# Altium integrated library NSC Switcher.IntLib: 2027 symbols (part 48 of 54)
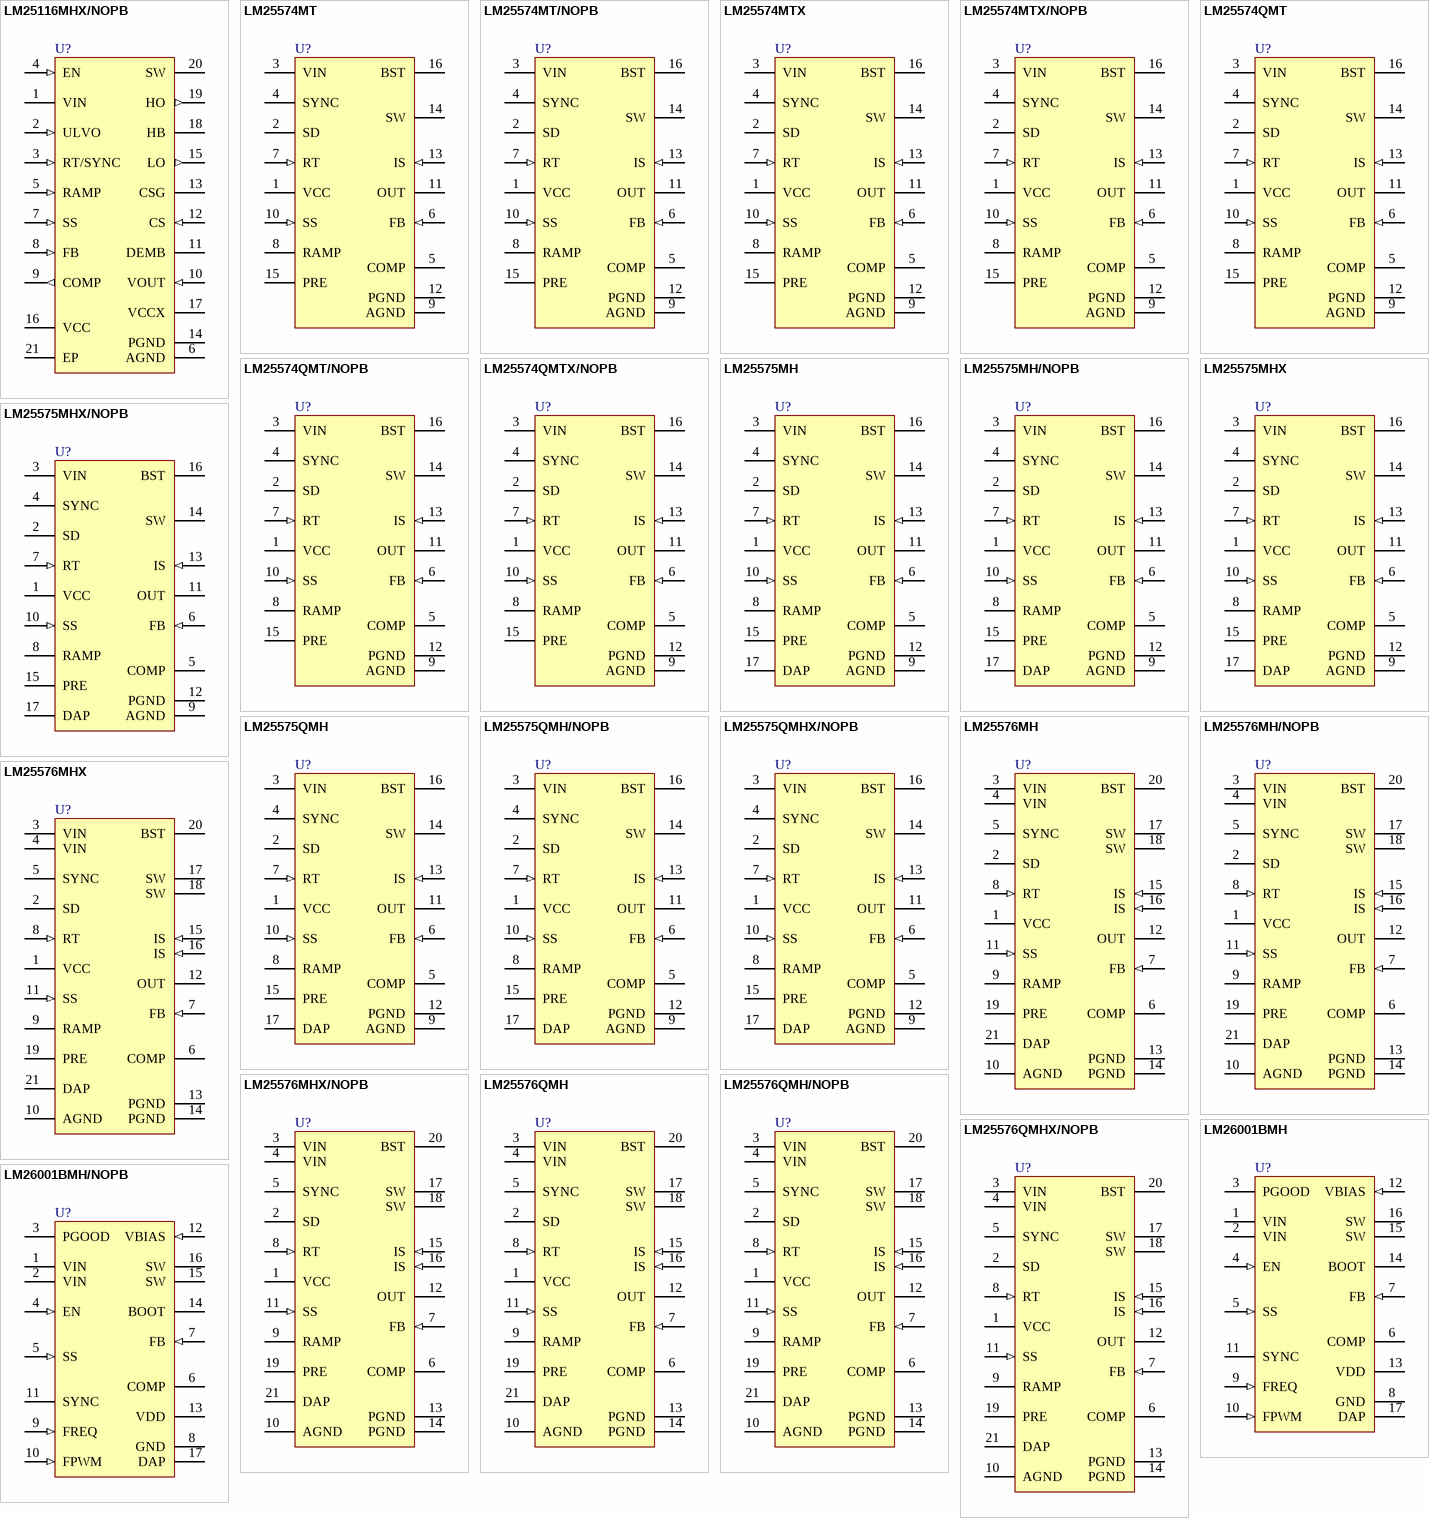
[diagram p110: symbols LM25116MHX/NOPB to LM26001BMH/NOPB]

## LM25575MHX/NOPB
designator U?
SIMPLE SWITCHER® 42V, 1.5A Step-Down Switching Regulator, 16-pin TSSOP-EP, Pb-Free; PartNumber: LM25575MHX/NOPB; Manufacturer: National Semiconductor; PackageTopMarking: NSUZXYTT*L25575*MH; PowerWise: Y; Published: 1-Mar-2010; DatasheetVersion: Mar-2009; PackageVersion: revA, Apr-2003; PackageReference: MXA16A; Publisher: Altium Limited; PackageDescription: Molded TSSOP, Jedec, Exposed Pad, 5.0 x 4.4 x 0.9mm Body,16 Lead, 0.65mm Pitch; Supplier 1: Digi-Key; Supplier Part Number 1: LM25575MHX-ND; RoHS: Y; PinCount: 16; CompType: Switcher; Code_JEDEC: MO-153-ABT; ComponentLink1Description: LM25575 Datasheet; ComponentLink1URL: http://www.national.com/ds/LM/LM25575.pdf; ComponentLink2Description: LM25575 Web Page; ComponentLink2URL: http://www.national.com/pf/LM/LM25575.html; ComponentLink3Description: MXA16A Package Page; ComponentLink3URL: http://www.national.com/packaging/folders/mxa16a.html
footprint MXA16A_N (TSOP, 16-Leads, Body 5x4.4mm, Pitch 0.65mm, Exposed Pad, IPC Medium Density)
footprint MXA16A_L (TSOP, 16-Leads, Body 5x4.4mm, Pitch 0.65mm, Exposed Pad, IPC High Density)
footprint MXA16A_M (TSOP, 16-Leads, Body 5x4.4mm, Pitch 0.65mm, Exposed Pad, IPC Low Density)
pins: 1 VCC (power), 2 SD, 3 VIN (power), 4 SYNC, 5 COMP, 6 FB (in), 7 RT (in), 8 RAMP, 9 AGND (power), 10 SS (in), 11 OUT (power), 12 PGND (power), 13 IS (in), 14 SW (power), 15 PRE (oc), 16 BST, 17 DAP (power)

## LM25575QMH
designator U?
SIMPLE SWITCHER® 42V, 1.5A Step-Down Switching Regulator, 16-pin TSSOP-EP; PartNumber: LM25575QMH; Manufacturer: National Semiconductor; PackageTopMarking: NSUZXYTT*L25575*QMH; PowerWise: N; Published: 29-May-2009; DatasheetVersion: Mar-2009; PackageVersion: revA, Apr-2003; PackageReference: MXA16A; Publisher: Altium Limited; PackageDescription: Molded TSSOP, Jedec, Exposed Pad, 5.0 x 4.4 x 0.9mm Body,16 Lead, 0.65mm Pitch; RoHS: Y; PinCount: 16; CompType: Switcher; Code_JEDEC: MO-153-ABT; ComponentLink1Description: LM25575 Datasheet; ComponentLink1URL: http://www.national.com/ds/LM/LM25575.pdf; ComponentLink2Description: LM25575 Web Page; ComponentLink2URL: http://www.national.com/pf/LM/LM25575.html; ComponentLink3Description: MXA16A Package Page; ComponentLink3URL: http://www.national.com/packaging/folders/mxa16a.html
footprint MXA16A_N (TSOP, 16-Leads, Body 5x4.4mm, Pitch 0.65mm, Exposed Pad, IPC Medium Density)
footprint MXA16A_L (TSOP, 16-Leads, Body 5x4.4mm, Pitch 0.65mm, Exposed Pad, IPC High Density)
footprint MXA16A_M (TSOP, 16-Leads, Body 5x4.4mm, Pitch 0.65mm, Exposed Pad, IPC Low Density)
pins: 1 VCC (power), 2 SD, 3 VIN (power), 4 SYNC, 5 COMP, 6 FB (in), 7 RT (in), 8 RAMP, 9 AGND (power), 10 SS (in), 11 OUT (power), 12 PGND (power), 13 IS (in), 14 SW (power), 15 PRE (oc), 16 BST, 17 DAP (power)

## LM25575QMH/NOPB
designator U?
SIMPLE SWITCHER® 42V, 1.5A Step-Down Switching Regulator, 16-pin TSSOP-EP, Pb-Free; PartNumber: LM25575QMH/NOPB; Manufacturer: National Semiconductor; PackageTopMarking: NSUZXYTT*L25575*QMH; PowerWise: N; Published: 1-Mar-2010; DatasheetVersion: Mar-2009; PackageVersion: revA, Apr-2003; PackageReference: MXA16A; Publisher: Altium Limited; PackageDescription: Molded TSSOP, Jedec, Exposed Pad, 5.0 x 4.4 x 0.9mm Body,16 Lead, 0.65mm Pitch; Supplier 1: Digi-Key; Supplier Part Number 1: LM25575QMH-ND; RoHS: Y; PinCount: 16; CompType: Switcher; Code_JEDEC: MO-153-ABT; ComponentLink1Description: LM25575 Datasheet; ComponentLink1URL: http://www.national.com/ds/LM/LM25575.pdf; ComponentLink2Description: LM25575 Web Page; ComponentLink2URL: http://www.national.com/pf/LM/LM25575.html; ComponentLink3Description: MXA16A Package Page; ComponentLink3URL: http://www.national.com/packaging/folders/mxa16a.html
footprint MXA16A_N (TSOP, 16-Leads, Body 5x4.4mm, Pitch 0.65mm, Exposed Pad, IPC Medium Density)
footprint MXA16A_L (TSOP, 16-Leads, Body 5x4.4mm, Pitch 0.65mm, Exposed Pad, IPC High Density)
footprint MXA16A_M (TSOP, 16-Leads, Body 5x4.4mm, Pitch 0.65mm, Exposed Pad, IPC Low Density)
pins: 1 VCC (power), 2 SD, 3 VIN (power), 4 SYNC, 5 COMP, 6 FB (in), 7 RT (in), 8 RAMP, 9 AGND (power), 10 SS (in), 11 OUT (power), 12 PGND (power), 13 IS (in), 14 SW (power), 15 PRE (oc), 16 BST, 17 DAP (power)

## LM25575QMHX/NOPB
designator U?
SIMPLE SWITCHER® 42V, 1.5A Step-Down Switching Regulator, 16-pin TSSOP-EP, Pb-Free; PartNumber: LM25575QMHX/NOPB; Manufacturer: National Semiconductor; PackageTopMarking: NSUZXYTT*L25575*QMH; PowerWise: N; Published: 1-Mar-2010; DatasheetVersion: Mar-2009; PackageVersion: revA, Apr-2003; PackageReference: MXA16A; Publisher: Altium Limited; PackageDescription: Molded TSSOP, Jedec, Exposed Pad, 5.0 x 4.4 x 0.9mm Body,16 Lead, 0.65mm Pitch; Supplier 1: Digi-Key; Supplier Part Number 1: LM25575QMHX-ND; RoHS: Y; PinCount: 16; CompType: Switcher; Code_JEDEC: MO-153-ABT; ComponentLink1Description: LM25575 Datasheet; ComponentLink1URL: http://www.national.com/ds/LM/LM25575.pdf; ComponentLink2Description: LM25575 Web Page; ComponentLink2URL: http://www.national.com/pf/LM/LM25575.html; ComponentLink3Description: MXA16A Package Page; ComponentLink3URL: http://www.national.com/packaging/folders/mxa16a.html
footprint MXA16A_N (TSOP, 16-Leads, Body 5x4.4mm, Pitch 0.65mm, Exposed Pad, IPC Medium Density)
footprint MXA16A_L (TSOP, 16-Leads, Body 5x4.4mm, Pitch 0.65mm, Exposed Pad, IPC High Density)
footprint MXA16A_M (TSOP, 16-Leads, Body 5x4.4mm, Pitch 0.65mm, Exposed Pad, IPC Low Density)
pins: 1 VCC (power), 2 SD, 3 VIN (power), 4 SYNC, 5 COMP, 6 FB (in), 7 RT (in), 8 RAMP, 9 AGND (power), 10 SS (in), 11 OUT (power), 12 PGND (power), 13 IS (in), 14 SW (power), 15 PRE (oc), 16 BST, 17 DAP (power)

## LM25576MH
designator U?
SIMPLE SWITCHER® 42V, 3A Step-Down Switching Regulator, 20-pin TSSOP-EP; PartNumber: LM25576MH; Manufacturer: National Semiconductor; PackageTopMarking: NSUZXYTT*LM25576*MH; PowerWise: Y; Published: 4-Dec-2008; DatasheetVersion: Mar-2009; PackageVersion: revC, Jul-2006; PackageReference: MXA20A; Publisher: Altium Limited; PackageDescription: Molded TSSOP, Jedec, 6.5 x 4.4 x 0.9mm Body, 20 Lead, 0.65mm Pitch, Exposed Pad; Supplier 1: Farnell; Supplier Part Number 1: 1325421; RoHS: N; PinCount: 20; CompType: Switcher; Code_JEDEC: MO-153-ACT; ComponentLink1Description: LM25576 Datasheet; ComponentLink1URL: http://www.national.com/ds/LM/LM25576.pdf; ComponentLink2Description: LM25576 Web Page; ComponentLink2URL: http://www.national.com/pf/LM/LM25576.html; ComponentLink3Description: MXA20A Package Page; ComponentLink3URL: http://www.national.com/packaging/folders/mxa20a.html
footprint MXA20A_N (TSOP, 20-Leads, Body 6.5x4.4mm, Pitch 0.65mm, Exposed Pad, IPC Medium Density)
footprint MXA20A_L (TSOP, 20-Leads, Body 6.5x4.4mm, Pitch 0.65mm, Exposed Pad, IPC High Density)
footprint MXA20A_M (TSOP, 20-Leads, Body 6.5x4.4mm, Pitch 0.65mm, Exposed Pad, IPC Low Density)
pins: 1 VCC (power), 2 SD, 3 VIN (power), 4 VIN (power), 5 SYNC, 6 COMP, 7 FB (in), 8 RT (in), 9 RAMP, 10 AGND (power), 11 SS (in), 12 OUT (power), 13 PGND (power), 14 PGND (power), 15 IS (in), 16 IS (in), 17 SW (power), 18 SW (power), 19 PRE (oc), 20 BST, 21 DAP (power)

## LM25576MH/NOPB
designator U?
SIMPLE SWITCHER® 42V, 3A Step-Down Switching Regulator, 20-pin TSSOP-EP, Pb-Free; PartNumber: LM25576MH/NOPB; Manufacturer: National Semiconductor; PackageTopMarking: NSUZXYTT*LM25576*MH; PowerWise: Y; Published: 1-Mar-2010; DatasheetVersion: Mar-2009; PackageVersion: revC, Jul-2006; PackageReference: MXA20A; Publisher: Altium Limited; PackageDescription: Molded TSSOP, Jedec, 6.5 x 4.4 x 0.9mm Body, 20 Lead, 0.65mm Pitch, Exposed Pad; Supplier 1: Digi-Key; Supplier Part Number 1: LM25576MH-ND; Supplier 2: Farnell; Supplier Part Number 2: 1652386; RoHS: Y; PinCount: 20; CompType: Switcher; Code_JEDEC: MO-153-ACT; ComponentLink1Description: LM25576 Datasheet; ComponentLink1URL: http://www.national.com/ds/LM/LM25576.pdf; ComponentLink2Description: LM25576 Web Page; ComponentLink2URL: http://www.national.com/pf/LM/LM25576.html; ComponentLink3Description: MXA20A Package Page; ComponentLink3URL: http://www.national.com/packaging/folders/mxa20a.html
footprint MXA20A_N (TSOP, 20-Leads, Body 6.5x4.4mm, Pitch 0.65mm, Exposed Pad, IPC Medium Density)
footprint MXA20A_L (TSOP, 20-Leads, Body 6.5x4.4mm, Pitch 0.65mm, Exposed Pad, IPC High Density)
footprint MXA20A_M (TSOP, 20-Leads, Body 6.5x4.4mm, Pitch 0.65mm, Exposed Pad, IPC Low Density)
pins: 1 VCC (power), 2 SD, 3 VIN (power), 4 VIN (power), 5 SYNC, 6 COMP, 7 FB (in), 8 RT (in), 9 RAMP, 10 AGND (power), 11 SS (in), 12 OUT (power), 13 PGND (power), 14 PGND (power), 15 IS (in), 16 IS (in), 17 SW (power), 18 SW (power), 19 PRE (oc), 20 BST, 21 DAP (power)

## LM25576MHX
designator U?
SIMPLE SWITCHER® 42V, 3A Step-Down Switching Regulator, 20-pin TSSOP-EP; PartNumber: LM25576MHX; Manufacturer: National Semiconductor; PackageTopMarking: NSUZXYTT*LM25576*MH; PowerWise: Y; Published: 1-Mar-2010; DatasheetVersion: Mar-2009; PackageVersion: revC, Jul-2006; PackageReference: MXA20A; Publisher: Altium Limited; PackageDescription: Molded TSSOP, Jedec, 6.5 x 4.4 x 0.9mm Body, 20 Lead, 0.65mm Pitch, Exposed Pad; RoHS: N; PinCount: 20; CompType: Switcher; Code_JEDEC: MO-153-ACT; ComponentLink1Description: LM25576 Datasheet; ComponentLink1URL: http://www.national.com/ds/LM/LM25576.pdf; ComponentLink2Description: LM25576 Web Page; ComponentLink2URL: http://www.national.com/pf/LM/LM25576.html; ComponentLink3Description: MXA20A Package Page; ComponentLink3URL: http://www.national.com/packaging/folders/mxa20a.html
footprint MXA20A_N (TSOP, 20-Leads, Body 6.5x4.4mm, Pitch 0.65mm, Exposed Pad, IPC Medium Density)
footprint MXA20A_L (TSOP, 20-Leads, Body 6.5x4.4mm, Pitch 0.65mm, Exposed Pad, IPC High Density)
footprint MXA20A_M (TSOP, 20-Leads, Body 6.5x4.4mm, Pitch 0.65mm, Exposed Pad, IPC Low Density)
pins: 1 VCC (power), 2 SD, 3 VIN (power), 4 VIN (power), 5 SYNC, 6 COMP, 7 FB (in), 8 RT (in), 9 RAMP, 10 AGND (power), 11 SS (in), 12 OUT (power), 13 PGND (power), 14 PGND (power), 15 IS (in), 16 IS (in), 17 SW (power), 18 SW (power), 19 PRE (oc), 20 BST, 21 DAP (power)

## LM25576MHX/NOPB
designator U?
SIMPLE SWITCHER® 42V, 3A Step-Down Switching Regulator, 20-pin TSSOP-EP, Pb-Free; PartNumber: LM25576MHX/NOPB; Manufacturer: National Semiconductor; PackageTopMarking: NSUZXYTT*LM25576*MH; PowerWise: Y; Published: 1-Mar-2010; DatasheetVersion: Mar-2009; PackageVersion: revC, Jul-2006; PackageReference: MXA20A; Publisher: Altium Limited; PackageDescription: Molded TSSOP, Jedec, 6.5 x 4.4 x 0.9mm Body, 20 Lead, 0.65mm Pitch, Exposed Pad; Supplier 1: Digi-Key; Supplier Part Number 1: LM25576MHX-ND; RoHS: Y; PinCount: 20; CompType: Switcher; Code_JEDEC: MO-153-ACT; ComponentLink1Description: LM25576 Datasheet; ComponentLink1URL: http://www.national.com/ds/LM/LM25576.pdf; ComponentLink2Description: LM25576 Web Page; ComponentLink2URL: http://www.national.com/pf/LM/LM25576.html; ComponentLink3Description: MXA20A Package Page; ComponentLink3URL: http://www.national.com/packaging/folders/mxa20a.html
footprint MXA20A_N (TSOP, 20-Leads, Body 6.5x4.4mm, Pitch 0.65mm, Exposed Pad, IPC Medium Density)
footprint MXA20A_L (TSOP, 20-Leads, Body 6.5x4.4mm, Pitch 0.65mm, Exposed Pad, IPC High Density)
footprint MXA20A_M (TSOP, 20-Leads, Body 6.5x4.4mm, Pitch 0.65mm, Exposed Pad, IPC Low Density)
pins: 1 VCC (power), 2 SD, 3 VIN (power), 4 VIN (power), 5 SYNC, 6 COMP, 7 FB (in), 8 RT (in), 9 RAMP, 10 AGND (power), 11 SS (in), 12 OUT (power), 13 PGND (power), 14 PGND (power), 15 IS (in), 16 IS (in), 17 SW (power), 18 SW (power), 19 PRE (oc), 20 BST, 21 DAP (power)

## LM25576QMH
designator U?
SIMPLE SWITCHER® 42V, 3A Step-Down Switching Regulator, 20-pin TSSOP-EP; PartNumber: LM25576QMH; Manufacturer: National Semiconductor; PackageTopMarking: NSUZXYTT*LM25576*QMH; PowerWise: N; Published: 29-May-2009; DatasheetVersion: Mar-2009; PackageVersion: revC, Jul-2006; PackageReference: MXA20A; Publisher: Altium Limited; PackageDescription: Molded TSSOP, Jedec, 6.5 x 4.4 x 0.9mm Body, 20 Lead, 0.65mm Pitch, Exposed Pad; RoHS: Y; PinCount: 20; CompType: Switcher; Code_JEDEC: MO-153-ACT; ComponentLink1Description: LM25576 Datasheet; ComponentLink1URL: http://www.national.com/ds/LM/LM25576.pdf; ComponentLink2Description: LM25576 Web Page; ComponentLink2URL: http://www.national.com/pf/LM/LM25576.html; ComponentLink3Description: MXA20A Package Page; ComponentLink3URL: http://www.national.com/packaging/folders/mxa20a.html
footprint MXA20A_N (TSOP, 20-Leads, Body 6.5x4.4mm, Pitch 0.65mm, Exposed Pad, IPC Medium Density)
footprint MXA20A_L (TSOP, 20-Leads, Body 6.5x4.4mm, Pitch 0.65mm, Exposed Pad, IPC High Density)
footprint MXA20A_M (TSOP, 20-Leads, Body 6.5x4.4mm, Pitch 0.65mm, Exposed Pad, IPC Low Density)
pins: 1 VCC (power), 2 SD, 3 VIN (power), 4 VIN (power), 5 SYNC, 6 COMP, 7 FB (in), 8 RT (in), 9 RAMP, 10 AGND (power), 11 SS (in), 12 OUT (power), 13 PGND (power), 14 PGND (power), 15 IS (in), 16 IS (in), 17 SW (power), 18 SW (power), 19 PRE (oc), 20 BST, 21 DAP (power)

## LM25576QMH/NOPB
designator U?
SIMPLE SWITCHER® 42V, 3A Step-Down Switching Regulator, 20-pin TSSOP-EP, Pb-Free; PartNumber: LM25576QMH/NOPB; Manufacturer: National Semiconductor; PackageTopMarking: NSUZXYTT*LM25576*QMH; PowerWise: N; Published: 1-Mar-2010; DatasheetVersion: Mar-2009; PackageVersion: revC, Jul-2006; PackageReference: MXA20A; Publisher: Altium Limited; PackageDescription: Molded TSSOP, Jedec, 6.5 x 4.4 x 0.9mm Body, 20 Lead, 0.65mm Pitch, Exposed Pad; Supplier 1: Digi-Key; Supplier Part Number 1: LM25576QMH-ND; RoHS: Y; PinCount: 20; CompType: Switcher; Code_JEDEC: MO-153-ACT; ComponentLink1Description: LM25576 Datasheet; ComponentLink1URL: http://www.national.com/ds/LM/LM25576.pdf; ComponentLink2Description: LM25576 Web Page; ComponentLink2URL: http://www.national.com/pf/LM/LM25576.html; ComponentLink3Description: MXA20A Package Page; ComponentLink3URL: http://www.national.com/packaging/folders/mxa20a.html
footprint MXA20A_N (TSOP, 20-Leads, Body 6.5x4.4mm, Pitch 0.65mm, Exposed Pad, IPC Medium Density)
footprint MXA20A_L (TSOP, 20-Leads, Body 6.5x4.4mm, Pitch 0.65mm, Exposed Pad, IPC High Density)
footprint MXA20A_M (TSOP, 20-Leads, Body 6.5x4.4mm, Pitch 0.65mm, Exposed Pad, IPC Low Density)
pins: 1 VCC (power), 2 SD, 3 VIN (power), 4 VIN (power), 5 SYNC, 6 COMP, 7 FB (in), 8 RT (in), 9 RAMP, 10 AGND (power), 11 SS (in), 12 OUT (power), 13 PGND (power), 14 PGND (power), 15 IS (in), 16 IS (in), 17 SW (power), 18 SW (power), 19 PRE (oc), 20 BST, 21 DAP (power)

## LM25576QMHX/NOPB
designator U?
SIMPLE SWITCHER® 42V, 3A Step-Down Switching Regulator, 20-pin TSSOP-EP, Pb-Free; PartNumber: LM25576QMHX/NOPB; Manufacturer: National Semiconductor; PackageTopMarking: NSUZXYTT*LM25576*QMH; PowerWise: N; Published: 1-Mar-2010; DatasheetVersion: Mar-2009; PackageVersion: revC, Jul-2006; PackageReference: MXA20A; Publisher: Altium Limited; PackageDescription: Molded TSSOP, Jedec, 6.5 x 4.4 x 0.9mm Body, 20 Lead, 0.65mm Pitch, Exposed Pad; Supplier 1: Digi-Key; Supplier Part Number 1: LM25576QMHX-ND; RoHS: Y; PinCount: 20; CompType: Switcher; Code_JEDEC: MO-153-ACT; ComponentLink1Description: LM25576 Datasheet; ComponentLink1URL: http://www.national.com/ds/LM/LM25576.pdf; ComponentLink2Description: LM25576 Web Page; ComponentLink2URL: http://www.national.com/pf/LM/LM25576.html; ComponentLink3Description: MXA20A Package Page; ComponentLink3URL: http://www.national.com/packaging/folders/mxa20a.html
footprint MXA20A_N (TSOP, 20-Leads, Body 6.5x4.4mm, Pitch 0.65mm, Exposed Pad, IPC Medium Density)
footprint MXA20A_L (TSOP, 20-Leads, Body 6.5x4.4mm, Pitch 0.65mm, Exposed Pad, IPC High Density)
footprint MXA20A_M (TSOP, 20-Leads, Body 6.5x4.4mm, Pitch 0.65mm, Exposed Pad, IPC Low Density)
pins: 1 VCC (power), 2 SD, 3 VIN (power), 4 VIN (power), 5 SYNC, 6 COMP, 7 FB (in), 8 RT (in), 9 RAMP, 10 AGND (power), 11 SS (in), 12 OUT (power), 13 PGND (power), 14 PGND (power), 15 IS (in), 16 IS (in), 17 SW (power), 18 SW (power), 19 PRE (oc), 20 BST, 21 DAP (power)

## LM26001BMH
designator U?
1.5A Switching Regulator with High Efficiency Sleep Mode, 16-pin TSSOP-EP; PartNumber: LM26001BMH; Manufacturer: National Semiconductor; PackageTopMarking: NSUZXYTT*L26001*BMH; PowerWise: Y; CompType: Switcher; Published: 4-Dec-2008; DatasheetVersion: May-2008; PackageVersion: revA, Apr-2003; PackageReference: MXA16A; Publisher: Altium Limited; PackageDescription: Molded TSSOP, Jedec, Exposed Pad, 5.0 x 4.4 x 0.9mm Body,16 Lead, 0.65mm Pitch; RoHS: Y; PinCount: 16; Code_JEDEC: MO-153-ABT; ComponentLink1Description: LM26001B Datasheet; ComponentLink1URL: http://www.national.com/ds/LM/LM26001B.pdf; ComponentLink2Description: LM26001B Web Page; ComponentLink2URL: http://www.national.com/pf/LM/LM26001B.html; ComponentLink3Description: MXA16A Package Page; ComponentLink3URL: http://www.national.com/packaging/folders/mxa16a.html
footprint MXA16A_N (TSOP, 16-Leads, Body 5x4.4mm, Pitch 0.65mm, Exposed Pad, IPC Medium Density)
footprint MXA16A_L (TSOP, 16-Leads, Body 5x4.4mm, Pitch 0.65mm, Exposed Pad, IPC High Density)
footprint MXA16A_M (TSOP, 16-Leads, Body 5x4.4mm, Pitch 0.65mm, Exposed Pad, IPC Low Density)
pins: 1 VIN (power), 2 VIN (power), 3 PGOOD (oc), 4 EN (in), 5 SS (in), 6 COMP, 7 FB (in), 8 GND (power), 9 FREQ (in), 10 FPWM (in), 11 SYNC, 12 VBIAS (in), 13 VDD (power), 14 BOOT, 15 SW (power), 16 SW (power), 17 DAP (power)

## LM26001BMH/NOPB
designator U?
1.5A Switching Regulator with High Efficiency Sleep Mode, 16-pin TSSOP-EP, Pb-Free; PartNumber: LM26001BMH/NOPB; Manufacturer: National Semiconductor; PackageTopMarking: NSUZXYTT*L26001*BMH; PowerWise: Y; CompType: Switcher; Published: 1-Mar-2010; DatasheetVersion: May-2008; PackageVersion: revA, Apr-2003; PackageReference: MXA16A; Publisher: Altium Limited; PackageDescription: Molded TSSOP, Jedec, Exposed Pad, 5.0 x 4.4 x 0.9mm Body,16 Lead, 0.65mm Pitch; Supplier 1: Digi-Key; Supplier Part Number 1: LM26001BMH-ND; RoHS: Y; PinCount: 16; Code_JEDEC: MO-153-ABT; ComponentLink1Description: LM26001B Datasheet; ComponentLink1URL: http://www.national.com/ds/LM/LM26001B.pdf; ComponentLink2Description: LM26001B Web Page; ComponentLink2URL: http://www.national.com/pf/LM/LM26001B.html; ComponentLink3Description: MXA16A Package Page; ComponentLink3URL: http://www.national.com/packaging/folders/mxa16a.html
footprint MXA16A_N (TSOP, 16-Leads, Body 5x4.4mm, Pitch 0.65mm, Exposed Pad, IPC Medium Density)
footprint MXA16A_L (TSOP, 16-Leads, Body 5x4.4mm, Pitch 0.65mm, Exposed Pad, IPC High Density)
footprint MXA16A_M (TSOP, 16-Leads, Body 5x4.4mm, Pitch 0.65mm, Exposed Pad, IPC Low Density)
pins: 1 VIN (power), 2 VIN (power), 3 PGOOD (oc), 4 EN (in), 5 SS (in), 6 COMP, 7 FB (in), 8 GND (power), 9 FREQ (in), 10 FPWM (in), 11 SYNC, 12 VBIAS (in), 13 VDD (power), 14 BOOT, 15 SW (power), 16 SW (power), 17 DAP (power)

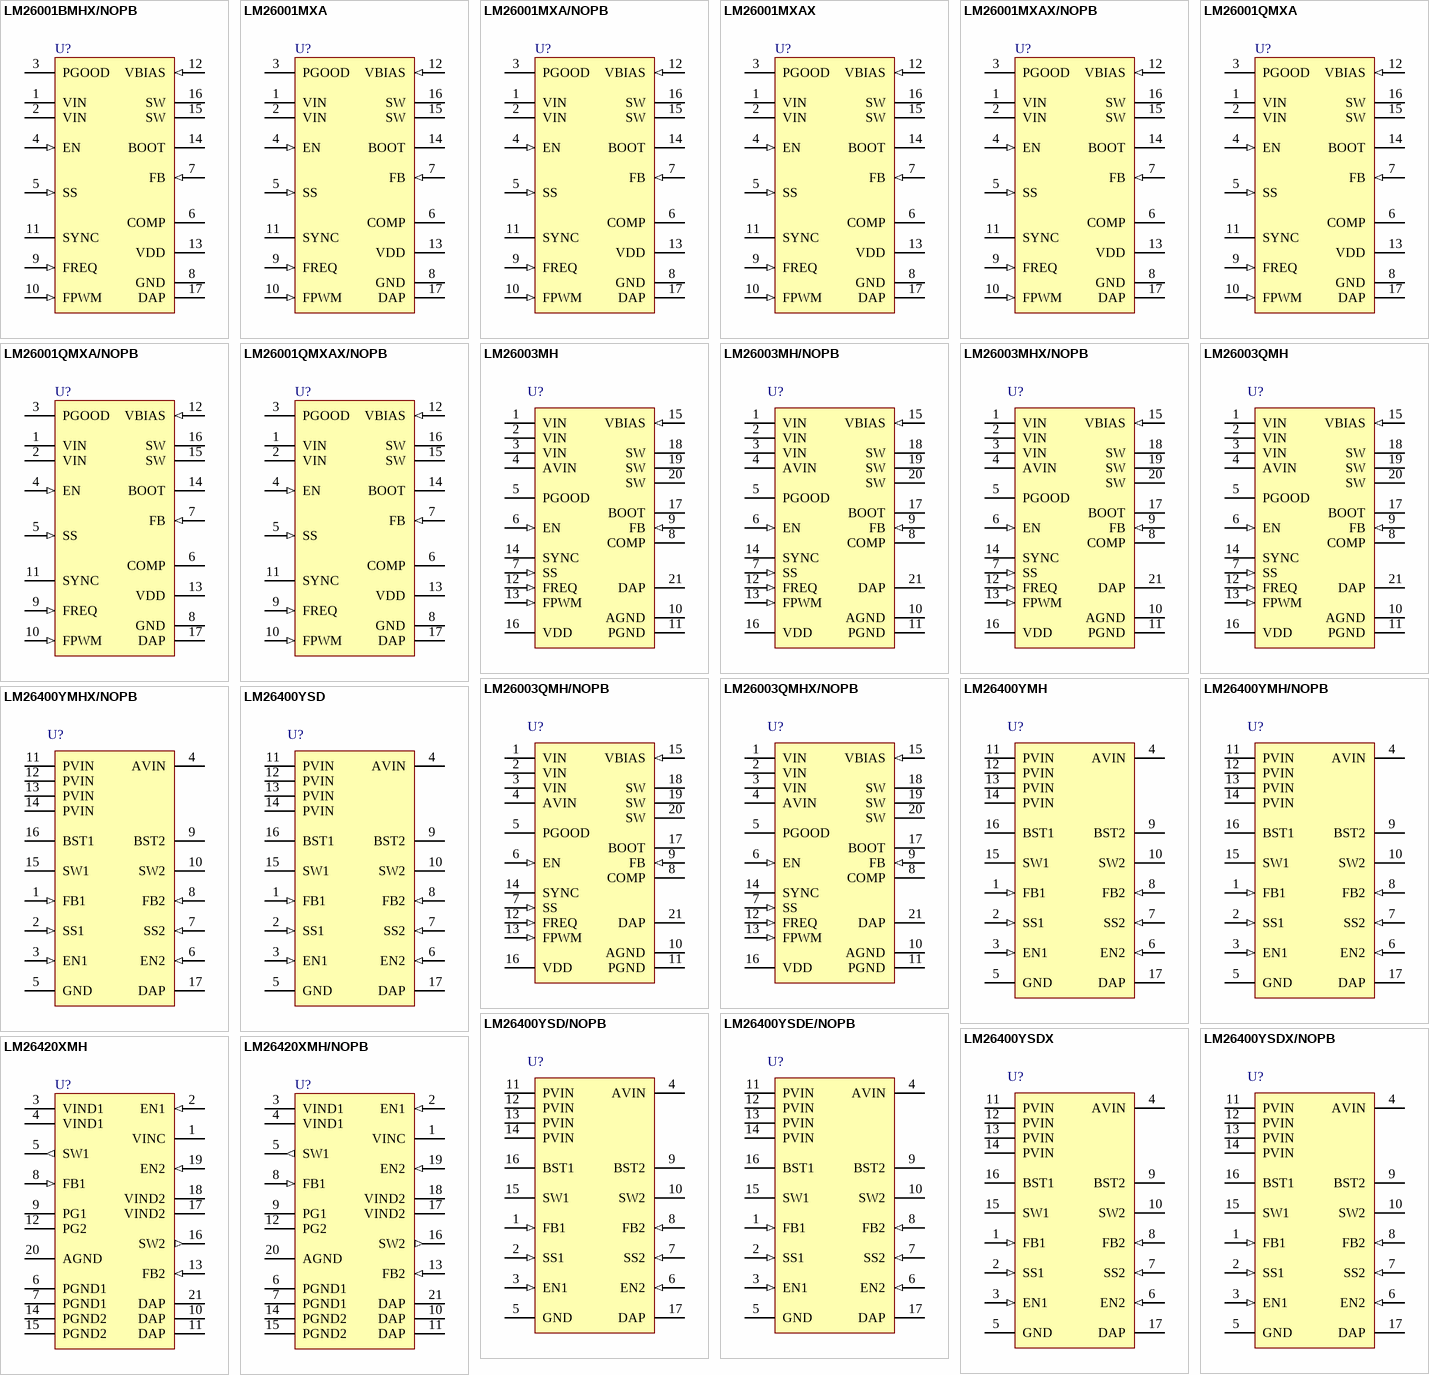
[diagram p54: symbols LM26001BMHX/NOPB to LM26420XMH/NOPB]

## LM26001BMHX/NOPB
designator U?
1.5A Switching Regulator with High Efficiency Sleep Mode, 16-pin TSSOP-EP, Pb-Free; PartNumber: LM26001BMHX/NOPB; Manufacturer: National Semiconductor; PackageTopMarking: NSUZXYTT*L26001*BMH; PowerWise: Y; CompType: Switcher; Published: 1-Mar-2010; DatasheetVersion: May-2008; PackageVersion: revA, Apr-2003; PackageReference: MXA16A; Publisher: Altium Limited; PackageDescription: Molded TSSOP, Jedec, Exposed Pad, 5.0 x 4.4 x 0.9mm Body,16 Lead, 0.65mm Pitch; Supplier 1: Digi-Key; Supplier Part Number 1: LM26001BMHX-ND; RoHS: Y; PinCount: 16; Code_JEDEC: MO-153-ABT; ComponentLink1Description: LM26001B Datasheet; ComponentLink1URL: http://www.national.com/ds/LM/LM26001B.pdf; ComponentLink2Description: LM26001B Web Page; ComponentLink2URL: http://www.national.com/pf/LM/LM26001B.html; ComponentLink3Description: MXA16A Package Page; ComponentLink3URL: http://www.national.com/packaging/folders/mxa16a.html
footprint MXA16A_N (TSOP, 16-Leads, Body 5x4.4mm, Pitch 0.65mm, Exposed Pad, IPC Medium Density)
footprint MXA16A_L (TSOP, 16-Leads, Body 5x4.4mm, Pitch 0.65mm, Exposed Pad, IPC High Density)
footprint MXA16A_M (TSOP, 16-Leads, Body 5x4.4mm, Pitch 0.65mm, Exposed Pad, IPC Low Density)
pins: 1 VIN (power), 2 VIN (power), 3 PGOOD (oc), 4 EN (in), 5 SS (in), 6 COMP, 7 FB (in), 8 GND (power), 9 FREQ (in), 10 FPWM (in), 11 SYNC, 12 VBIAS (in), 13 VDD (power), 14 BOOT, 15 SW (power), 16 SW (power), 17 DAP (power)

## LM26001MXA
designator U?
1.5A Switching Regulator with High Efficiency Sleep Mode, 16-pin TSSOP-EP; PartNumber: LM26001MXA; Manufacturer: National Semiconductor; PackageTopMarking: NSUZXYTT*L26001*MXA; PowerWise: Y; CompType: Switcher; Published: 4-Dec-2008; DatasheetVersion: Apr-2009; PackageVersion: revA, Apr-2003; PackageReference: MXA16A; Publisher: Altium Limited; PackageDescription: Molded TSSOP, Jedec, Exposed Pad, 5.0 x 4.4 x 0.9mm Body,16 Lead, 0.65mm Pitch; RoHS: N; PinCount: 16; Code_JEDEC: MO-153-ABT; ComponentLink1Description: LM26001 Datasheet; ComponentLink1URL: http://www.national.com/ds/LM/LM26001.pdf; ComponentLink2Description: LM26001 Web Page; ComponentLink2URL: http://www.national.com/pf/LM/LM26001.html; ComponentLink3Description: MXA16A Package Page; ComponentLink3URL: http://www.national.com/packaging/folders/mxa16a.html
footprint MXA16A_N (TSOP, 16-Leads, Body 5x4.4mm, Pitch 0.65mm, Exposed Pad, IPC Medium Density)
footprint MXA16A_L (TSOP, 16-Leads, Body 5x4.4mm, Pitch 0.65mm, Exposed Pad, IPC High Density)
footprint MXA16A_M (TSOP, 16-Leads, Body 5x4.4mm, Pitch 0.65mm, Exposed Pad, IPC Low Density)
pins: 1 VIN (power), 2 VIN (power), 3 PGOOD (oc), 4 EN (in), 5 SS (in), 6 COMP, 7 FB (in), 8 GND (power), 9 FREQ (in), 10 FPWM (in), 11 SYNC, 12 VBIAS (in), 13 VDD (power), 14 BOOT, 15 SW (power), 16 SW (power), 17 DAP (power)

## LM26001MXA/NOPB
designator U?
1.5A Switching Regulator with High Efficiency Sleep Mode, 16-pin TSSOP-EP, Pb-Free; PartNumber: LM26001MXA/NOPB; Manufacturer: National Semiconductor; PackageTopMarking: NSUZXYTT*L26001*MXA; PowerWise: Y; CompType: Switcher; Published: 1-Mar-2010; DatasheetVersion: Apr-2009; PackageVersion: revA, Apr-2003; PackageReference: MXA16A; Publisher: Altium Limited; PackageDescription: Molded TSSOP, Jedec, Exposed Pad, 5.0 x 4.4 x 0.9mm Body,16 Lead, 0.65mm Pitch; Supplier 1: Digi-Key; Supplier Part Number 1: LM26001MXA-ND; Supplier 2: Farnell; Supplier Part Number 2: 1559872; RoHS: Y; PinCount: 16; Code_JEDEC: MO-153-ABT; ComponentLink1Description: LM26001 Datasheet; ComponentLink1URL: http://www.national.com/ds/LM/LM26001.pdf; ComponentLink2Description: LM26001 Web Page; ComponentLink2URL: http://www.national.com/pf/LM/LM26001.html; ComponentLink3Description: MXA16A Package Page; ComponentLink3URL: http://www.national.com/packaging/folders/mxa16a.html
footprint MXA16A_N (TSOP, 16-Leads, Body 5x4.4mm, Pitch 0.65mm, Exposed Pad, IPC Medium Density)
footprint MXA16A_L (TSOP, 16-Leads, Body 5x4.4mm, Pitch 0.65mm, Exposed Pad, IPC High Density)
footprint MXA16A_M (TSOP, 16-Leads, Body 5x4.4mm, Pitch 0.65mm, Exposed Pad, IPC Low Density)
pins: 1 VIN (power), 2 VIN (power), 3 PGOOD (oc), 4 EN (in), 5 SS (in), 6 COMP, 7 FB (in), 8 GND (power), 9 FREQ (in), 10 FPWM (in), 11 SYNC, 12 VBIAS (in), 13 VDD (power), 14 BOOT, 15 SW (power), 16 SW (power), 17 DAP (power)

## LM26001MXAX
designator U?
1.5A Switching Regulator with High Efficiency Sleep Mode, 16-pin TSSOP-EP; PartNumber: LM26001MXAX; Manufacturer: National Semiconductor; PackageTopMarking: NSUZXYTT*L26001*MXA; PowerWise: Y; CompType: Switcher; Published: 1-Mar-2010; DatasheetVersion: Apr-2009; PackageVersion: revA, Apr-2003; PackageReference: MXA16A; Publisher: Altium Limited; PackageDescription: Molded TSSOP, Jedec, Exposed Pad, 5.0 x 4.4 x 0.9mm Body,16 Lead, 0.65mm Pitch; RoHS: N; PinCount: 16; Code_JEDEC: MO-153-ABT; ComponentLink1Description: LM26001 Datasheet; ComponentLink1URL: http://www.national.com/ds/LM/LM26001.pdf; ComponentLink2Description: LM26001 Web Page; ComponentLink2URL: http://www.national.com/pf/LM/LM26001.html; ComponentLink3Description: MXA16A Package Page; ComponentLink3URL: http://www.national.com/packaging/folders/mxa16a.html
footprint MXA16A_N (TSOP, 16-Leads, Body 5x4.4mm, Pitch 0.65mm, Exposed Pad, IPC Medium Density)
footprint MXA16A_L (TSOP, 16-Leads, Body 5x4.4mm, Pitch 0.65mm, Exposed Pad, IPC High Density)
footprint MXA16A_M (TSOP, 16-Leads, Body 5x4.4mm, Pitch 0.65mm, Exposed Pad, IPC Low Density)
pins: 1 VIN (power), 2 VIN (power), 3 PGOOD (oc), 4 EN (in), 5 SS (in), 6 COMP, 7 FB (in), 8 GND (power), 9 FREQ (in), 10 FPWM (in), 11 SYNC, 12 VBIAS (in), 13 VDD (power), 14 BOOT, 15 SW (power), 16 SW (power), 17 DAP (power)

## LM26001MXAX/NOPB
designator U?
1.5A Switching Regulator with High Efficiency Sleep Mode, 16-pin TSSOP-EP, Pb-Free; PartNumber: LM26001MXAX/NOPB; Manufacturer: National Semiconductor; PackageTopMarking: NSUZXYTT*L26001*MXA; PowerWise: Y; CompType: Switcher; Published: 1-Mar-2010; DatasheetVersion: Apr-2009; PackageVersion: revA, Apr-2003; PackageReference: MXA16A; Publisher: Altium Limited; PackageDescription: Molded TSSOP, Jedec, Exposed Pad, 5.0 x 4.4 x 0.9mm Body,16 Lead, 0.65mm Pitch; Supplier 1: Digi-Key; Supplier Part Number 1: LM26001MXAX-ND; RoHS: Y; PinCount: 16; Code_JEDEC: MO-153-ABT; ComponentLink1Description: LM26001 Datasheet; ComponentLink1URL: http://www.national.com/ds/LM/LM26001.pdf; ComponentLink2Description: LM26001 Web Page; ComponentLink2URL: http://www.national.com/pf/LM/LM26001.html; ComponentLink3Description: MXA16A Package Page; ComponentLink3URL: http://www.national.com/packaging/folders/mxa16a.html
footprint MXA16A_N (TSOP, 16-Leads, Body 5x4.4mm, Pitch 0.65mm, Exposed Pad, IPC Medium Density)
footprint MXA16A_L (TSOP, 16-Leads, Body 5x4.4mm, Pitch 0.65mm, Exposed Pad, IPC High Density)
footprint MXA16A_M (TSOP, 16-Leads, Body 5x4.4mm, Pitch 0.65mm, Exposed Pad, IPC Low Density)
pins: 1 VIN (power), 2 VIN (power), 3 PGOOD (oc), 4 EN (in), 5 SS (in), 6 COMP, 7 FB (in), 8 GND (power), 9 FREQ (in), 10 FPWM (in), 11 SYNC, 12 VBIAS (in), 13 VDD (power), 14 BOOT, 15 SW (power), 16 SW (power), 17 DAP (power)

## LM26001QMXA
designator U?
1.5A Switching Regulator with High Efficiency Sleep Mode, 16-pin TSSOP-EP; PartNumber: LM26001QMXA; Manufacturer: National Semiconductor; PackageTopMarking: NSUZXYTT*L26001*QMXA; PowerWise: N; CompType: Switcher; Published: 29-May-2009; DatasheetVersion: Apr-2009; PackageVersion: revA, Apr-2003; PackageReference: MXA16A; Publisher: Altium Limited; PackageDescription: Molded TSSOP, Jedec, Exposed Pad, 5.0 x 4.4 x 0.9mm Body,16 Lead, 0.65mm Pitch; Supplier 1: Farnell; Supplier Part Number 1: 1798314; RoHS: Y; PinCount: 16; Code_JEDEC: MO-153-ABT; ComponentLink1Description: LM26001 Datasheet; ComponentLink1URL: http://www.national.com/ds/LM/LM26001.pdf; ComponentLink2Description: LM26001 Web Page; ComponentLink2URL: http://www.national.com/pf/LM/LM26001.html; ComponentLink3Description: MXA16A Package Page; ComponentLink3URL: http://www.national.com/packaging/folders/mxa16a.html
footprint MXA16A_N (TSOP, 16-Leads, Body 5x4.4mm, Pitch 0.65mm, Exposed Pad, IPC Medium Density)
footprint MXA16A_L (TSOP, 16-Leads, Body 5x4.4mm, Pitch 0.65mm, Exposed Pad, IPC High Density)
footprint MXA16A_M (TSOP, 16-Leads, Body 5x4.4mm, Pitch 0.65mm, Exposed Pad, IPC Low Density)
pins: 1 VIN (power), 2 VIN (power), 3 PGOOD (oc), 4 EN (in), 5 SS (in), 6 COMP, 7 FB (in), 8 GND (power), 9 FREQ (in), 10 FPWM (in), 11 SYNC, 12 VBIAS (in), 13 VDD (power), 14 BOOT, 15 SW (power), 16 SW (power), 17 DAP (power)

## LM26001QMXA/NOPB
designator U?
1.5A Switching Regulator with High Efficiency Sleep Mode, 16-pin TSSOP-EP, Pb-Free; PartNumber: LM26001QMXA/NOPB; Manufacturer: National Semiconductor; PackageTopMarking: NSUZXYTT*L26001*QMXA; PowerWise: N; CompType: Switcher; Published: 1-Mar-2010; DatasheetVersion: Apr-2009; PackageVersion: revA, Apr-2003; PackageReference: MXA16A; Publisher: Altium Limited; PackageDescription: Molded TSSOP, Jedec, Exposed Pad, 5.0 x 4.4 x 0.9mm Body,16 Lead, 0.65mm Pitch; Supplier 1: Digi-Key; Supplier Part Number 1: LM26001QMXA-ND; RoHS: Y; PinCount: 16; Code_JEDEC: MO-153-ABT; ComponentLink1Description: LM26001 Datasheet; ComponentLink1URL: http://www.national.com/ds/LM/LM26001.pdf; ComponentLink2Description: LM26001 Web Page; ComponentLink2URL: http://www.national.com/pf/LM/LM26001.html; ComponentLink3Description: MXA16A Package Page; ComponentLink3URL: http://www.national.com/packaging/folders/mxa16a.html
footprint MXA16A_N (TSOP, 16-Leads, Body 5x4.4mm, Pitch 0.65mm, Exposed Pad, IPC Medium Density)
footprint MXA16A_L (TSOP, 16-Leads, Body 5x4.4mm, Pitch 0.65mm, Exposed Pad, IPC High Density)
footprint MXA16A_M (TSOP, 16-Leads, Body 5x4.4mm, Pitch 0.65mm, Exposed Pad, IPC Low Density)
pins: 1 VIN (power), 2 VIN (power), 3 PGOOD (oc), 4 EN (in), 5 SS (in), 6 COMP, 7 FB (in), 8 GND (power), 9 FREQ (in), 10 FPWM (in), 11 SYNC, 12 VBIAS (in), 13 VDD (power), 14 BOOT, 15 SW (power), 16 SW (power), 17 DAP (power)

## LM26001QMXAX/NOPB
designator U?
1.5A Switching Regulator with High Efficiency Sleep Mode, 16-pin TSSOP-EP, Pb-Free; PartNumber: LM26001QMXAX/NOPB; Manufacturer: National Semiconductor; PackageTopMarking: NSUZXYTT*L26001*QMXA; PowerWise: N; CompType: Switcher; Published: 1-Mar-2010; DatasheetVersion: Apr-2009; PackageVersion: revA, Apr-2003; PackageReference: MXA16A; Publisher: Altium Limited; PackageDescription: Molded TSSOP, Jedec, Exposed Pad, 5.0 x 4.4 x 0.9mm Body,16 Lead, 0.65mm Pitch; Supplier 1: Digi-Key; Supplier Part Number 1: LM26001QMXAX-ND; RoHS: Y; PinCount: 16; Code_JEDEC: MO-153-ABT; ComponentLink1Description: LM26001 Datasheet; ComponentLink1URL: http://www.national.com/ds/LM/LM26001.pdf; ComponentLink2Description: LM26001 Web Page; ComponentLink2URL: http://www.national.com/pf/LM/LM26001.html; ComponentLink3Description: MXA16A Package Page; ComponentLink3URL: http://www.national.com/packaging/folders/mxa16a.html
footprint MXA16A_N (TSOP, 16-Leads, Body 5x4.4mm, Pitch 0.65mm, Exposed Pad, IPC Medium Density)
footprint MXA16A_L (TSOP, 16-Leads, Body 5x4.4mm, Pitch 0.65mm, Exposed Pad, IPC High Density)
footprint MXA16A_M (TSOP, 16-Leads, Body 5x4.4mm, Pitch 0.65mm, Exposed Pad, IPC Low Density)
pins: 1 VIN (power), 2 VIN (power), 3 PGOOD (oc), 4 EN (in), 5 SS (in), 6 COMP, 7 FB (in), 8 GND (power), 9 FREQ (in), 10 FPWM (in), 11 SYNC, 12 VBIAS (in), 13 VDD (power), 14 BOOT, 15 SW (power), 16 SW (power), 17 DAP (power)

## LM26003MH
designator U?
3A Switching Regulator with High Efficiency Sleep Mode, 20-pin TSSOP-EP; PartNumber: LM26003MH; Manufacturer: National Semiconductor; PackageTopMarking: NSUZXYTT*LM26003*MH; PowerWise: Y; CompType: Switcher; Published: 4-Dec-2008; DatasheetVersion: Mar-2009; PackageVersion: revC, Jul-2006; PackageReference: MXA20A; Publisher: Altium Limited; PackageDescription: Molded TSSOP, Jedec, 6.5 x 4.4 x 0.9mm Body, 20 Lead, 0.65mm Pitch, Exposed Pad; RoHS: Y; PinCount: 20; Code_JEDEC: MO-153-ACT; ComponentLink1Description: LM26003 Datasheet; ComponentLink1URL: http://www.national.com/ds/LM/LM26003.pdf; ComponentLink2Description: LM26003 Web Page; ComponentLink2URL: http://www.national.com/pf/LM/LM26003.html; ComponentLink3Description: MXA20A Package Page; ComponentLink3URL: http://www.national.com/packaging/folders/mxa20a.html
footprint MXA20A_N (TSOP, 20-Leads, Body 6.5x4.4mm, Pitch 0.65mm, Exposed Pad, IPC Medium Density)
footprint MXA20A_L (TSOP, 20-Leads, Body 6.5x4.4mm, Pitch 0.65mm, Exposed Pad, IPC High Density)
footprint MXA20A_M (TSOP, 20-Leads, Body 6.5x4.4mm, Pitch 0.65mm, Exposed Pad, IPC Low Density)
pins: 1 VIN (power), 2 VIN (power), 3 VIN (power), 4 AVIN (power), 5 PGOOD (oc), 6 EN (in), 7 SS (in), 8 COMP, 9 FB (in), 10 AGND (power), 11 PGND (power), 12 FREQ (in), 13 FPWM (in), 14 SYNC, 15 VBIAS (in), 16 VDD (power), 17 BOOT, 18 SW (power), 19 SW (power), 20 SW (power), 21 DAP (power)

## LM26003MH/NOPB
designator U?
3A Switching Regulator with High Efficiency Sleep Mode, 20-pin TSSOP-EP, Pb-Free; PartNumber: LM26003MH/NOPB; Manufacturer: National Semiconductor; PackageTopMarking: NSUZXYTT*LM26003*MH; PowerWise: Y; CompType: Switcher; Published: 1-Mar-2010; DatasheetVersion: Mar-2009; PackageVersion: revC, Jul-2006; PackageReference: MXA20A; Publisher: Altium Limited; PackageDescription: Molded TSSOP, Jedec, 6.5 x 4.4 x 0.9mm Body, 20 Lead, 0.65mm Pitch, Exposed Pad; Supplier 1: Digi-Key; Supplier Part Number 1: LM26003MH/NOPB-ND; RoHS: Y; PinCount: 20; Code_JEDEC: MO-153-ACT; ComponentLink1Description: LM26003 Datasheet; ComponentLink1URL: http://www.national.com/ds/LM/LM26003.pdf; ComponentLink2Description: LM26003 Web Page; ComponentLink2URL: http://www.national.com/pf/LM/LM26003.html; ComponentLink3Description: MXA20A Package Page; ComponentLink3URL: http://www.national.com/packaging/folders/mxa20a.html
footprint MXA20A_N (TSOP, 20-Leads, Body 6.5x4.4mm, Pitch 0.65mm, Exposed Pad, IPC Medium Density)
footprint MXA20A_L (TSOP, 20-Leads, Body 6.5x4.4mm, Pitch 0.65mm, Exposed Pad, IPC High Density)
footprint MXA20A_M (TSOP, 20-Leads, Body 6.5x4.4mm, Pitch 0.65mm, Exposed Pad, IPC Low Density)
pins: 1 VIN (power), 2 VIN (power), 3 VIN (power), 4 AVIN (power), 5 PGOOD (oc), 6 EN (in), 7 SS (in), 8 COMP, 9 FB (in), 10 AGND (power), 11 PGND (power), 12 FREQ (in), 13 FPWM (in), 14 SYNC, 15 VBIAS (in), 16 VDD (power), 17 BOOT, 18 SW (power), 19 SW (power), 20 SW (power), 21 DAP (power)

## LM26003MHX/NOPB
designator U?
3A Switching Regulator with High Efficiency Sleep Mode, 20-pin TSSOP-EP, Pb-Free; PartNumber: LM26003MHX/NOPB; Manufacturer: National Semiconductor; PackageTopMarking: NSUZXYTT*LM26003*MH; PowerWise: Y; CompType: Switcher; Published: 1-Mar-2010; DatasheetVersion: Mar-2009; PackageVersion: revC, Jul-2006; PackageReference: MXA20A; Publisher: Altium Limited; PackageDescription: Molded TSSOP, Jedec, 6.5 x 4.4 x 0.9mm Body, 20 Lead, 0.65mm Pitch, Exposed Pad; Supplier 1: Digi-Key; Supplier Part Number 1: LM26003MHX-ND; RoHS: Y; PinCount: 20; Code_JEDEC: MO-153-ACT; ComponentLink1Description: LM26003 Datasheet; ComponentLink1URL: http://www.national.com/ds/LM/LM26003.pdf; ComponentLink2Description: LM26003 Web Page; ComponentLink2URL: http://www.national.com/pf/LM/LM26003.html; ComponentLink3Description: MXA20A Package Page; ComponentLink3URL: http://www.national.com/packaging/folders/mxa20a.html
footprint MXA20A_N (TSOP, 20-Leads, Body 6.5x4.4mm, Pitch 0.65mm, Exposed Pad, IPC Medium Density)
footprint MXA20A_L (TSOP, 20-Leads, Body 6.5x4.4mm, Pitch 0.65mm, Exposed Pad, IPC High Density)
footprint MXA20A_M (TSOP, 20-Leads, Body 6.5x4.4mm, Pitch 0.65mm, Exposed Pad, IPC Low Density)
pins: 1 VIN (power), 2 VIN (power), 3 VIN (power), 4 AVIN (power), 5 PGOOD (oc), 6 EN (in), 7 SS (in), 8 COMP, 9 FB (in), 10 AGND (power), 11 PGND (power), 12 FREQ (in), 13 FPWM (in), 14 SYNC, 15 VBIAS (in), 16 VDD (power), 17 BOOT, 18 SW (power), 19 SW (power), 20 SW (power), 21 DAP (power)

## LM26003QMH
designator U?
3A Switching Regulator with High Efficiency Sleep Mode, 20-pin TSSOP-EP; PartNumber: LM26003QMH; Manufacturer: National Semiconductor; PackageTopMarking: NSUZXYTT*LM26003*QMH; PowerWise: N; CompType: Switcher; Published: 29-May-2009; DatasheetVersion: Mar-2009; PackageVersion: revC, Jul-2006; PackageReference: MXA20A; Publisher: Altium Limited; PackageDescription: Molded TSSOP, Jedec, 6.5 x 4.4 x 0.9mm Body, 20 Lead, 0.65mm Pitch, Exposed Pad; RoHS: Y; PinCount: 20; Code_JEDEC: MO-153-ACT; ComponentLink1Description: LM26003 Datasheet; ComponentLink1URL: http://www.national.com/ds/LM/LM26003.pdf; ComponentLink2Description: LM26003 Web Page; ComponentLink2URL: http://www.national.com/pf/LM/LM26003.html; ComponentLink3Description: MXA20A Package Page; ComponentLink3URL: http://www.national.com/packaging/folders/mxa20a.html
footprint MXA20A_N (TSOP, 20-Leads, Body 6.5x4.4mm, Pitch 0.65mm, Exposed Pad, IPC Medium Density)
footprint MXA20A_L (TSOP, 20-Leads, Body 6.5x4.4mm, Pitch 0.65mm, Exposed Pad, IPC High Density)
footprint MXA20A_M (TSOP, 20-Leads, Body 6.5x4.4mm, Pitch 0.65mm, Exposed Pad, IPC Low Density)
pins: 1 VIN (power), 2 VIN (power), 3 VIN (power), 4 AVIN (power), 5 PGOOD (oc), 6 EN (in), 7 SS (in), 8 COMP, 9 FB (in), 10 AGND (power), 11 PGND (power), 12 FREQ (in), 13 FPWM (in), 14 SYNC, 15 VBIAS (in), 16 VDD (power), 17 BOOT, 18 SW (power), 19 SW (power), 20 SW (power), 21 DAP (power)

## LM26003QMH/NOPB
designator U?
3A Switching Regulator with High Efficiency Sleep Mode, 20-pin TSSOP-EP, Pb-Free; PartNumber: LM26003QMH/NOPB; Manufacturer: National Semiconductor; PackageTopMarking: NSUZXYTT*LM26003*QMH; PowerWise: N; CompType: Switcher; Published: 1-Mar-2010; DatasheetVersion: Mar-2009; PackageVersion: revC, Jul-2006; PackageReference: MXA20A; Publisher: Altium Limited; PackageDescription: Molded TSSOP, Jedec, 6.5 x 4.4 x 0.9mm Body, 20 Lead, 0.65mm Pitch, Exposed Pad; Supplier 1: Digi-Key; Supplier Part Number 1: LM26003QMH-ND; RoHS: Y; PinCount: 20; Code_JEDEC: MO-153-ACT; ComponentLink1Description: LM26003 Datasheet; ComponentLink1URL: http://www.national.com/ds/LM/LM26003.pdf; ComponentLink2Description: LM26003 Web Page; ComponentLink2URL: http://www.national.com/pf/LM/LM26003.html; ComponentLink3Description: MXA20A Package Page; ComponentLink3URL: http://www.national.com/packaging/folders/mxa20a.html
footprint MXA20A_N (TSOP, 20-Leads, Body 6.5x4.4mm, Pitch 0.65mm, Exposed Pad, IPC Medium Density)
footprint MXA20A_L (TSOP, 20-Leads, Body 6.5x4.4mm, Pitch 0.65mm, Exposed Pad, IPC High Density)
footprint MXA20A_M (TSOP, 20-Leads, Body 6.5x4.4mm, Pitch 0.65mm, Exposed Pad, IPC Low Density)
pins: 1 VIN (power), 2 VIN (power), 3 VIN (power), 4 AVIN (power), 5 PGOOD (oc), 6 EN (in), 7 SS (in), 8 COMP, 9 FB (in), 10 AGND (power), 11 PGND (power), 12 FREQ (in), 13 FPWM (in), 14 SYNC, 15 VBIAS (in), 16 VDD (power), 17 BOOT, 18 SW (power), 19 SW (power), 20 SW (power), 21 DAP (power)

## LM26003QMHX/NOPB
designator U?
3A Switching Regulator with High Efficiency Sleep Mode, 20-pin TSSOP-EP, Pb-Free; PartNumber: LM26003QMHX/NOPB; Manufacturer: National Semiconductor; PackageTopMarking: NSUZXYTT*LM26003*QMH; PowerWise: N; CompType: Switcher; Published: 1-Mar-2010; DatasheetVersion: Mar-2009; PackageVersion: revC, Jul-2006; PackageReference: MXA20A; Publisher: Altium Limited; PackageDescription: Molded TSSOP, Jedec, 6.5 x 4.4 x 0.9mm Body, 20 Lead, 0.65mm Pitch, Exposed Pad; Supplier 1: Digi-Key; Supplier Part Number 1: LM26003QMHX-ND; RoHS: Y; PinCount: 20; Code_JEDEC: MO-153-ACT; ComponentLink1Description: LM26003 Datasheet; ComponentLink1URL: http://www.national.com/ds/LM/LM26003.pdf; ComponentLink2Description: LM26003 Web Page; ComponentLink2URL: http://www.national.com/pf/LM/LM26003.html; ComponentLink3Description: MXA20A Package Page; ComponentLink3URL: http://www.national.com/packaging/folders/mxa20a.html
footprint MXA20A_N (TSOP, 20-Leads, Body 6.5x4.4mm, Pitch 0.65mm, Exposed Pad, IPC Medium Density)
footprint MXA20A_L (TSOP, 20-Leads, Body 6.5x4.4mm, Pitch 0.65mm, Exposed Pad, IPC High Density)
footprint MXA20A_M (TSOP, 20-Leads, Body 6.5x4.4mm, Pitch 0.65mm, Exposed Pad, IPC Low Density)
pins: 1 VIN (power), 2 VIN (power), 3 VIN (power), 4 AVIN (power), 5 PGOOD (oc), 6 EN (in), 7 SS (in), 8 COMP, 9 FB (in), 10 AGND (power), 11 PGND (power), 12 FREQ (in), 13 FPWM (in), 14 SYNC, 15 VBIAS (in), 16 VDD (power), 17 BOOT, 18 SW (power), 19 SW (power), 20 SW (power), 21 DAP (power)

## LM26400YMH
designator U?
Dual 2A, 500kHz Wide Input Range Buck Regulator, 16-pin TSSOP-EP; PartNumber: LM26400YMH; Manufacturer: National Semiconductor; PackageTopMarking: NSUZXYTT*L26400*YMH; PowerWise: N; CompType: Switcher; Published: 4-Dec-2008; DatasheetVersion: Aug-2007; PackageVersion: revA, Apr-2003; PackageReference: MXA16A; Publisher: Altium Limited; PackageDescription: Molded TSSOP, Jedec, Exposed Pad, 5.0 x 4.4 x 0.9mm Body,16 Lead, 0.65mm Pitch; Supplier 1: Farnell; Supplier Part Number 1: 1333956; RoHS: Y; PinCount: 16; Code_JEDEC: MO-153-ABT; ComponentLink1Description: LM26400Y Datasheet; ComponentLink1URL: http://www.national.com/ds/LM/LM26400Y.pdf; ComponentLink2Description: LM26400Y Web Page; ComponentLink2URL: http://www.national.com/pf/LM/LM26400Y.html; ComponentLink3Description: MXA16A Package Page; ComponentLink3URL: http://www.national.com/packaging/folders/mxa16a.html
footprint MXA16A_N (TSOP, 16-Leads, Body 5x4.4mm, Pitch 0.65mm, Exposed Pad, IPC Medium Density)
footprint MXA16A_L (TSOP, 16-Leads, Body 5x4.4mm, Pitch 0.65mm, Exposed Pad, IPC High Density)
footprint MXA16A_M (TSOP, 16-Leads, Body 5x4.4mm, Pitch 0.65mm, Exposed Pad, IPC Low Density)
pins: 1 FB1 (in), 2 SS1 (in), 3 EN1 (in), 4 AVIN (power), 5 GND (power), 6 EN2 (in), 7 SS2 (in), 8 FB2 (in), 9 BST2, 10 SW2 (power), 11 PVIN (power), 12 PVIN (power), 13 PVIN (power), 14 PVIN (power), 15 SW1 (power), 16 BST1, 17 DAP (power)

## LM26400YMH/NOPB
designator U?
Dual 2A, 500kHz Wide Input Range Buck Regulator, 16-pin TSSOP-EP, Pb-Free; PartNumber: LM26400YMH/NOPB; Manufacturer: National Semiconductor; PackageTopMarking: NSUZXYTT*L26400*YMH; PowerWise: N; CompType: Switcher; Published: 1-Mar-2010; DatasheetVersion: Aug-2007; PackageVersion: revA, Apr-2003; PackageReference: MXA16A; Publisher: Altium Limited; PackageDescription: Molded TSSOP, Jedec, Exposed Pad, 5.0 x 4.4 x 0.9mm Body,16 Lead, 0.65mm Pitch; Supplier 1: Digi-Key; Supplier Part Number 1: LM26400YMH-ND; Supplier 2: Farnell; Supplier Part Number 2: 1359689; RoHS: Y; PinCount: 16; Code_JEDEC: MO-153-ABT; ComponentLink1Description: LM26400Y Datasheet; ComponentLink1URL: http://www.national.com/ds/LM/LM26400Y.pdf; ComponentLink2Description: LM26400Y Web Page; ComponentLink2URL: http://www.national.com/pf/LM/LM26400Y.html; ComponentLink3Description: MXA16A Package Page; ComponentLink3URL: http://www.national.com/packaging/folders/mxa16a.html
footprint MXA16A_N (TSOP, 16-Leads, Body 5x4.4mm, Pitch 0.65mm, Exposed Pad, IPC Medium Density)
footprint MXA16A_L (TSOP, 16-Leads, Body 5x4.4mm, Pitch 0.65mm, Exposed Pad, IPC High Density)
footprint MXA16A_M (TSOP, 16-Leads, Body 5x4.4mm, Pitch 0.65mm, Exposed Pad, IPC Low Density)
pins: 1 FB1 (in), 2 SS1 (in), 3 EN1 (in), 4 AVIN (power), 5 GND (power), 6 EN2 (in), 7 SS2 (in), 8 FB2 (in), 9 BST2, 10 SW2 (power), 11 PVIN (power), 12 PVIN (power), 13 PVIN (power), 14 PVIN (power), 15 SW1 (power), 16 BST1, 17 DAP (power)

## LM26400YMHX/NOPB
designator U?
Dual 2A, 500kHz Wide Input Range Buck Regulator, 16-pin TSSOP-EP, Pb-Free; PartNumber: LM26400YMHX/NOPB; Manufacturer: National Semiconductor; PackageTopMarking: NSUZXYTT*L26400*YMH; PowerWise: N; CompType: Switcher; Published: 1-Mar-2010; DatasheetVersion: Aug-2007; PackageVersion: revA, Apr-2003; PackageReference: MXA16A; Publisher: Altium Limited; PackageDescription: Molded TSSOP, Jedec, Exposed Pad, 5.0 x 4.4 x 0.9mm Body,16 Lead, 0.65mm Pitch; Supplier 1: Digi-Key; Supplier Part Number 1: LM26400YMHX-ND; RoHS: Y; PinCount: 16; Code_JEDEC: MO-153-ABT; ComponentLink1Description: LM26400Y Datasheet; ComponentLink1URL: http://www.national.com/ds/LM/LM26400Y.pdf; ComponentLink2Description: LM26400Y Web Page; ComponentLink2URL: http://www.national.com/pf/LM/LM26400Y.html; ComponentLink3Description: MXA16A Package Page; ComponentLink3URL: http://www.national.com/packaging/folders/mxa16a.html
footprint MXA16A_N (TSOP, 16-Leads, Body 5x4.4mm, Pitch 0.65mm, Exposed Pad, IPC Medium Density)
footprint MXA16A_L (TSOP, 16-Leads, Body 5x4.4mm, Pitch 0.65mm, Exposed Pad, IPC High Density)
footprint MXA16A_M (TSOP, 16-Leads, Body 5x4.4mm, Pitch 0.65mm, Exposed Pad, IPC Low Density)
pins: 1 FB1 (in), 2 SS1 (in), 3 EN1 (in), 4 AVIN (power), 5 GND (power), 6 EN2 (in), 7 SS2 (in), 8 FB2 (in), 9 BST2, 10 SW2 (power), 11 PVIN (power), 12 PVIN (power), 13 PVIN (power), 14 PVIN (power), 15 SW1 (power), 16 BST1, 17 DAP (power)

## LM26400YSD
designator U?
Dual 2A, 500kHz Wide Input Range Buck Regulator, 16-pin LLP; PartNumber: LM26400YSD; Manufacturer: National Semiconductor; PackageTopMarking: NS*UZXYTT*L26400Y; PowerWise: N; CompType: Switcher; Published: 4-Dec-2008; DatasheetVersion: Aug-2007; PackageVersion: revA, May-2003; PackageReference: SDA16A; Publisher: Altium Limited; PackageDescription: LLP, Plastic, Dual, 5 x 5 x 0.8mm Body,16 Lead, 0.5mm Pitch, No Pullback; Supplier 1: Farnell; Supplier Part Number 1: 1333957; RoHS: N; PinCount: 16; ComponentLink1Description: LM26400Y Datasheet; ComponentLink1URL: http://www.national.com/ds/LM/LM26400Y.pdf; ComponentLink2Description: LM26400Y Web Page; ComponentLink2URL: http://www.national.com/pf/LM/LM26400Y.html; ComponentLink3Description: SDA16A Package Page; ComponentLink3URL: http://www.national.com/packaging/folders/sda16a.html
footprint SDA16A (SON, 16-Leads, Body 5x5mm, Pitch 0.5mm, NSC Recommended)
pins: 1 FB1 (in), 2 SS1 (in), 3 EN1 (in), 4 AVIN (power), 5 GND (power), 6 EN2 (in), 7 SS2 (in), 8 FB2 (in), 9 BST2, 10 SW2 (power), 11 PVIN (power), 12 PVIN (power), 13 PVIN (power), 14 PVIN (power), 15 SW1 (power), 16 BST1, 17 DAP (power)

## LM26400YSD/NOPB
designator U?
Dual 2A, 500kHz Wide Input Range Buck Regulator, 16-pin LLP, Pb-Free; PartNumber: LM26400YSD/NOPB; Manufacturer: National Semiconductor; PackageTopMarking: NS*UZXYTT*L26400Y; PowerWise: N; CompType: Switcher; Published: 1-Mar-2010; DatasheetVersion: Aug-2007; PackageVersion: revA, May-2003; PackageReference: SDA16A; Publisher: Altium Limited; PackageDescription: LLP, Plastic, Dual, 5 x 5 x 0.8mm Body,16 Lead, 0.5mm Pitch, No Pullback; Supplier 1: Digi-Key; Supplier Part Number 1: LM26400YSDTR-ND; Supplier 2: Digi-Key; Supplier Part Number 2: LM26400YSDCT-ND; Supplier 3: Digi-Key; Supplier Part Number 3: LM26400YSDDKR-ND; RoHS: Y; PinCount: 16; ComponentLink1Description: LM26400Y Datasheet; ComponentLink1URL: http://www.national.com/ds/LM/LM26400Y.pdf; ComponentLink2Description: LM26400Y Web Page; ComponentLink2URL: http://www.national.com/pf/LM/LM26400Y.html; ComponentLink3Description: SDA16A Package Page; ComponentLink3URL: http://www.national.com/packaging/folders/sda16a.html
footprint SDA16A (SON, 16-Leads, Body 5x5mm, Pitch 0.5mm, NSC Recommended)
pins: 1 FB1 (in), 2 SS1 (in), 3 EN1 (in), 4 AVIN (power), 5 GND (power), 6 EN2 (in), 7 SS2 (in), 8 FB2 (in), 9 BST2, 10 SW2 (power), 11 PVIN (power), 12 PVIN (power), 13 PVIN (power), 14 PVIN (power), 15 SW1 (power), 16 BST1, 17 DAP (power)

## LM26400YSDE/NOPB
designator U?
Dual 2A, 500kHz Wide Input Range Buck Regulator, 16-pin LLP, Pb-Free; PartNumber: LM26400YSDE/NOPB; Manufacturer: National Semiconductor; PackageTopMarking: NS*UZXYTT*L26400Y; PowerWise: N; CompType: Switcher; Published: 1-Mar-2010; DatasheetVersion: Aug-2007; PackageVersion: revA, May-2003; PackageReference: SDA16A; Publisher: Altium Limited; PackageDescription: LLP, Plastic, Dual, 5 x 5 x 0.8mm Body,16 Lead, 0.5mm Pitch, No Pullback; Supplier 1: Digi-Key; Supplier Part Number 1: LM26400YSDE-ND; RoHS: Y; PinCount: 16; ComponentLink1Description: LM26400Y Datasheet; ComponentLink1URL: http://www.national.com/ds/LM/LM26400Y.pdf; ComponentLink2Description: LM26400Y Web Page; ComponentLink2URL: http://www.national.com/pf/LM/LM26400Y.html; ComponentLink3Description: SDA16A Package Page; ComponentLink3URL: http://www.national.com/packaging/folders/sda16a.html
footprint SDA16A (SON, 16-Leads, Body 5x5mm, Pitch 0.5mm, NSC Recommended)
pins: 1 FB1 (in), 2 SS1 (in), 3 EN1 (in), 4 AVIN (power), 5 GND (power), 6 EN2 (in), 7 SS2 (in), 8 FB2 (in), 9 BST2, 10 SW2 (power), 11 PVIN (power), 12 PVIN (power), 13 PVIN (power), 14 PVIN (power), 15 SW1 (power), 16 BST1, 17 DAP (power)

## LM26400YSDX
designator U?
Dual 2A, 500kHz Wide Input Range Buck Regulator, 16-pin LLP; PartNumber: LM26400YSDX; Manufacturer: National Semiconductor; PackageTopMarking: NS*UZXYTT*L26400Y; PowerWise: N; CompType: Switcher; Published: 1-Mar-2010; DatasheetVersion: Aug-2007; PackageVersion: revA, May-2003; PackageReference: SDA16A; Publisher: Altium Limited; PackageDescription: LLP, Plastic, Dual, 5 x 5 x 0.8mm Body,16 Lead, 0.5mm Pitch, No Pullback; RoHS: N; PinCount: 16; ComponentLink1Description: LM26400Y Datasheet; ComponentLink1URL: http://www.national.com/ds/LM/LM26400Y.pdf; ComponentLink2Description: LM26400Y Web Page; ComponentLink2URL: http://www.national.com/pf/LM/LM26400Y.html; ComponentLink3Description: SDA16A Package Page; ComponentLink3URL: http://www.national.com/packaging/folders/sda16a.html
footprint SDA16A (SON, 16-Leads, Body 5x5mm, Pitch 0.5mm, NSC Recommended)
pins: 1 FB1 (in), 2 SS1 (in), 3 EN1 (in), 4 AVIN (power), 5 GND (power), 6 EN2 (in), 7 SS2 (in), 8 FB2 (in), 9 BST2, 10 SW2 (power), 11 PVIN (power), 12 PVIN (power), 13 PVIN (power), 14 PVIN (power), 15 SW1 (power), 16 BST1, 17 DAP (power)

## LM26400YSDX/NOPB
designator U?
Dual 2A, 500kHz Wide Input Range Buck Regulator, 16-pin LLP, Pb-Free; PartNumber: LM26400YSDX/NOPB; Manufacturer: National Semiconductor; PackageTopMarking: NS*UZXYTT*L26400Y; PowerWise: N; CompType: Switcher; Published: 1-Mar-2010; DatasheetVersion: Aug-2007; PackageVersion: revA, May-2003; PackageReference: SDA16A; Publisher: Altium Limited; PackageDescription: LLP, Plastic, Dual, 5 x 5 x 0.8mm Body,16 Lead, 0.5mm Pitch, No Pullback; Supplier 1: Digi-Key; Supplier Part Number 1: LM26400YSDX-ND; RoHS: Y; PinCount: 16; ComponentLink1Description: LM26400Y Datasheet; ComponentLink1URL: http://www.national.com/ds/LM/LM26400Y.pdf; ComponentLink2Description: LM26400Y Web Page; ComponentLink2URL: http://www.national.com/pf/LM/LM26400Y.html; ComponentLink3Description: SDA16A Package Page; ComponentLink3URL: http://www.national.com/packaging/folders/sda16a.html
footprint SDA16A (SON, 16-Leads, Body 5x5mm, Pitch 0.5mm, NSC Recommended)
pins: 1 FB1 (in), 2 SS1 (in), 3 EN1 (in), 4 AVIN (power), 5 GND (power), 6 EN2 (in), 7 SS2 (in), 8 FB2 (in), 9 BST2, 10 SW2 (power), 11 PVIN (power), 12 PVIN (power), 13 PVIN (power), 14 PVIN (power), 15 SW1 (power), 16 BST1, 17 DAP (power)